# EAGLE library part SP3243EUEA-L (library Exar_By_element14_Batch_1)
RS-232 Transceivers
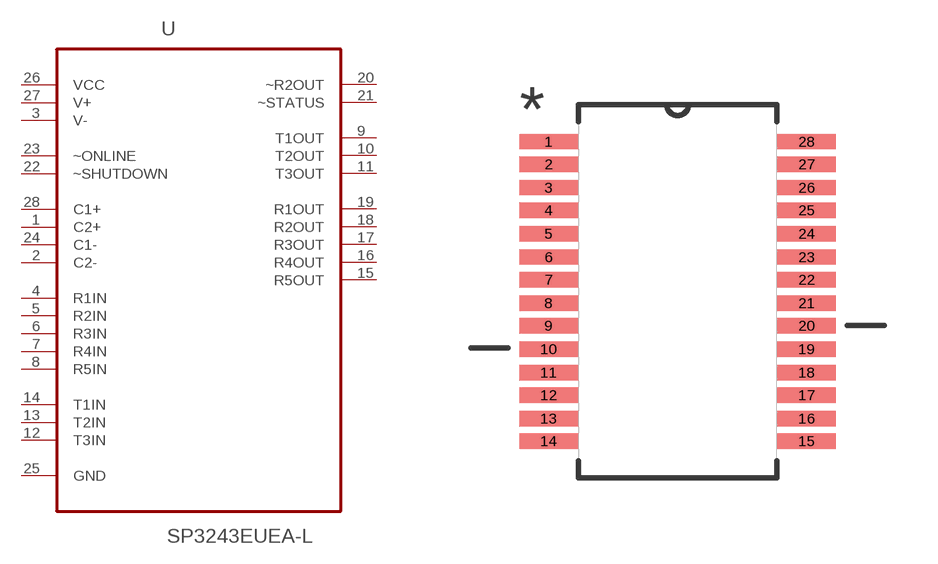
[diagram p33: symbol with the pads of SOP65P780X200-28N; footprint SOP65P780X200-28N]

Designator prefix U

## SP3243EUEA-L (MPN: SP3243EUEA-L; OC_FARNELL: 1758649; OC_NEWARK: 24R0469; PACKAGE: SSOP-28; SUPPLIER: Exar)  [SOP65P780X200-28N]
1  C2+  pas
2  C2-  pas
3  V-  pwr
4  R1IN  in
5  R2IN  in
6  R3IN  in
7  R4IN  in
8  R5IN  in
9  T1OUT  out
10  T2OUT  out
11  T3OUT  out
12  T3IN  in
13  T2IN  in
14  T1IN  in
15  R5OUT  out
16  R4OUT  out
17  R3OUT  out
18  R2OUT  out
19  R1OUT  out
20  ~R2OUT  out
21  ~STATUS  out
22  ~SHUTDOWN  in
23  ~ONLINE  in
24  C1-  pas
25  GND  pas
26  VCC  pwr
27  V+  pwr
28  C1+  pas

## Footprint SOP65P780X200-28N (pad centres in mm)
smd 1.651 x 0.432: 1 -3.632,4.216; 2 -3.632,3.581; 3 -3.632,2.921; 4 -3.632,2.286; 5 -3.632,1.626; 6 -3.632,0.965; 7 -3.632,0.33; 8 -3.632,-0.33; 9 -3.632,-0.965; 10 -3.632,-1.626; 11 -3.632,-2.286; 12 -3.632,-2.921; 13 -3.632,-3.581; 14 -3.632,-4.216; 15 3.632,-4.216; 16 3.632,-3.581; 17 3.632,-2.921; 18 3.632,-2.286; 19 3.632,-1.626; 20 3.632,-0.965; 21 3.632,-0.33; 22 3.632,0.33; 23 3.632,0.965; 24 3.632,1.626; 25 3.632,2.286; 26 3.632,2.921; 27 3.632,3.581; 28 3.632,4.216